# Altium integrated library Texas Instruments Power Management PWM Controller.IntLib: 1227 symbols (part 49 of 49)
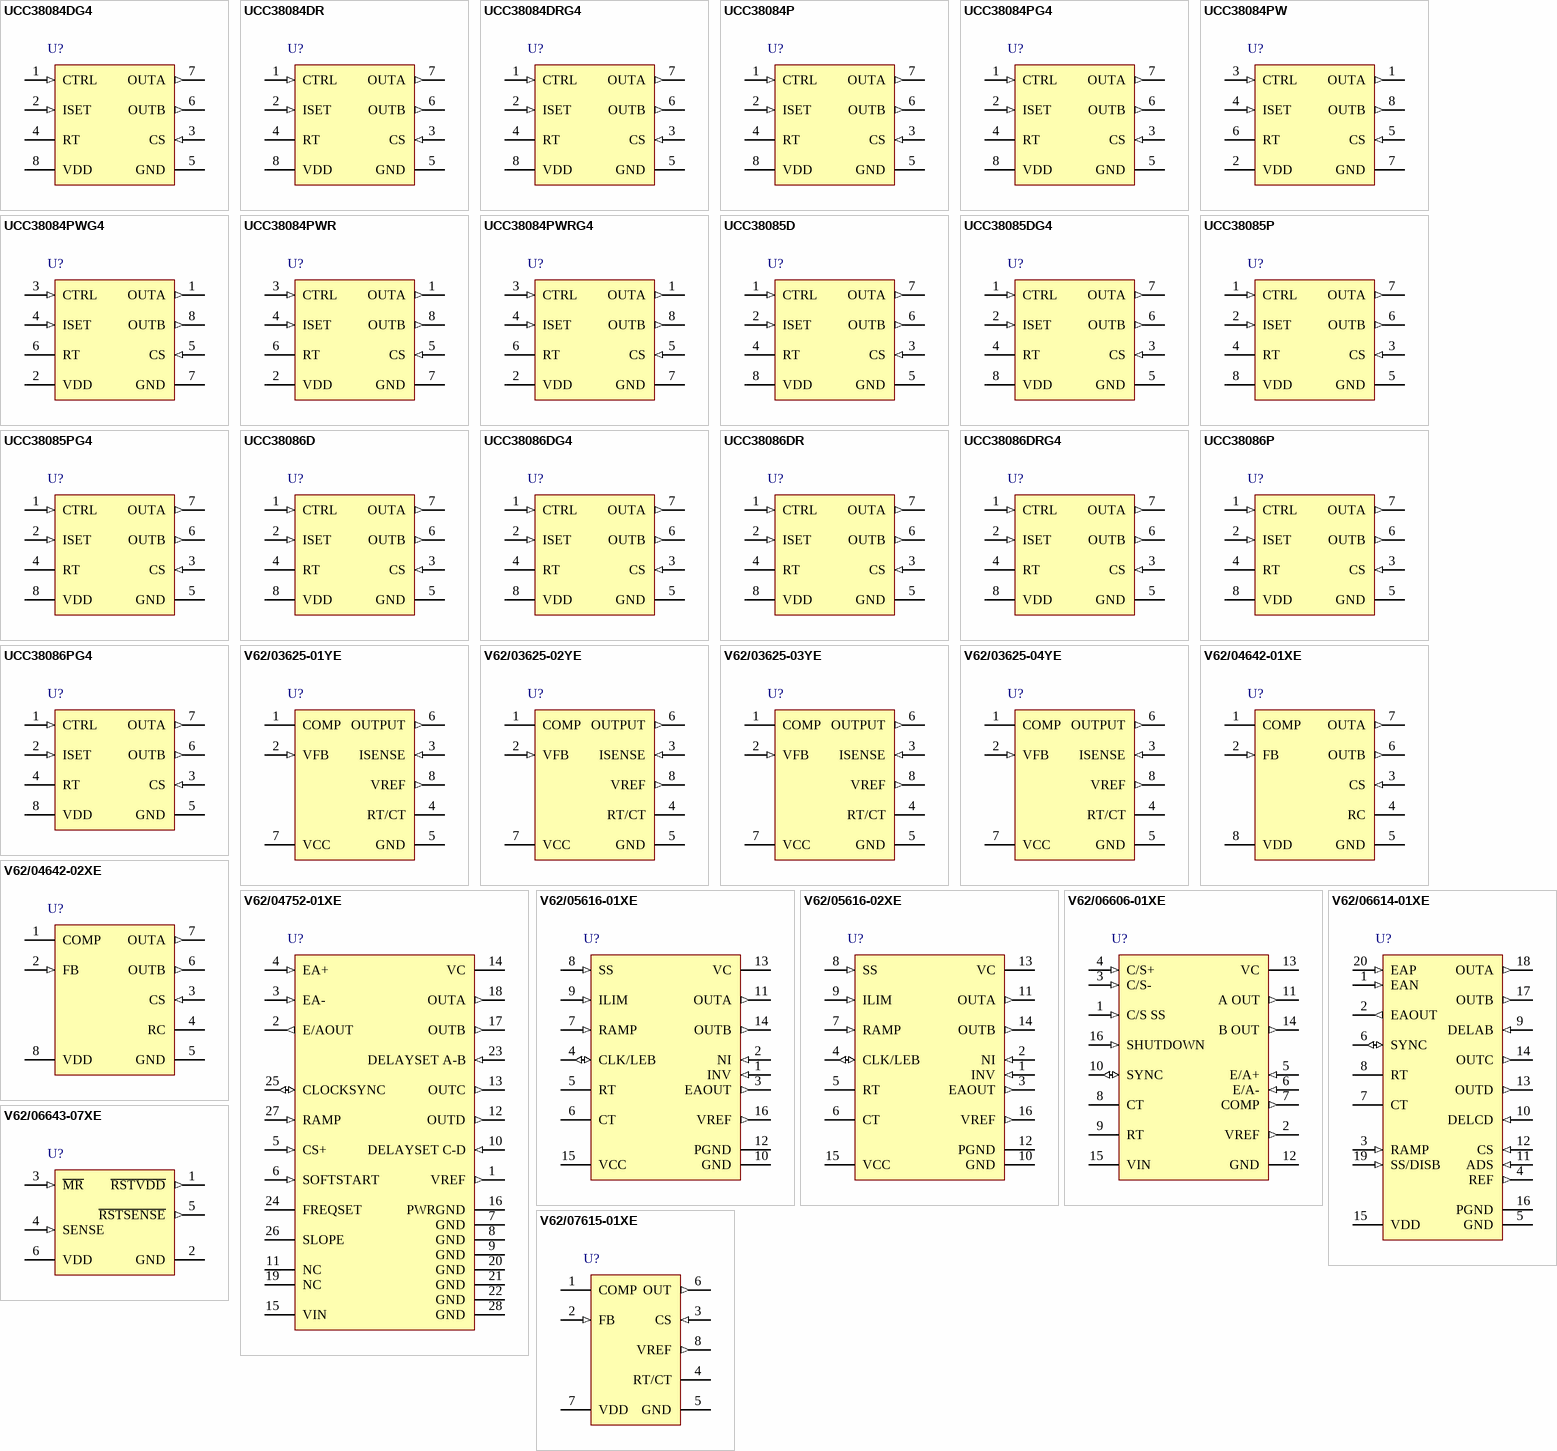
[diagram p91: symbols UCC38084DG4 to V62/07615-01XE]

## V62/06606-01XE
designator U?
Current-Mode PWM Controller with Current Control, 50 % Duty Cycle, -55 to +125 degC, 16-pin SOIC (DW), Green (RoHS & no Sb/Br); PartNumber: V62/06606-01XE; Manufacturer: Texas Instruments; Duty Cycle(Max)(%): 50; Frequency(Max)(kHz): 450; Rating: HiRel Enhanced Product; Regulated Outputs(#): 2; Topology: Boost, Flyback, Forward, Full-Bridge, Half-Bridge, Push-Pull; DatasheetVersion: SGLS329; PackageVersion: revG, Jan-2011; PackageReference: DW16; PackageDescription: 16-Pin Small Outline Integrated Circuit, 10.3 x 7.5 mm, Pitch 1.27 mm Pitch; Supplier 1: Newark; Supplier Part Number 1: 46M1797; Supplier 2: Mouser; Supplier Part Number 2: 595-V62/06606-01XE; Control Method: Current; Eco-Plan: Green (RoHS & no Sb/Br); SubFamily: PWM Controller; Mounting Technology: Surface Mount; Code_JEDEC: MS-013-AA; ComponentLink1Description: Datasheet; ComponentLink1URL: http://www.ti.com/general/docs/lit/getliterature.tsp?genericPartNumber=UC1846-EP&fileType=pdf
footprint DW16_N (SOIC, 16-Leads, Body 10.3x7.5mm, Pitch 1.27mm, IPC Medium Density)
footprint DW16_L (SOIC, 16-Leads, Body 10.3x7.5mm, Pitch 1.27mm, IPC High Density)
footprint DW16_M (SOIC, 16-Leads, Body 10.3x7.5mm, Pitch 1.27mm, IPC Low Density)
pins: 1 C/S SS (in), 2 VREF (out), 3 C/S- (in), 4 C/S+ (in), 5 E/A+ (in), 6 E/A- (in), 7 COMP (out), 8 CT, 9 RT, 10 SYNC (io), 11 A OUT (out), 12 GND (power), 13 VC (power), 14 B OUT (out), 15 VIN (power), 16 SHUTDOWN (in)

## V62/06614-01XE
designator U?
BiCMOS Advanced Phase Shift PWM Controller with Current Control, 100 % Duty Cycle, -55 to +125 degC, 20-pin SOIC (DW), Green (RoHS & no Sb/Br); PartNumber: V62/06614-01XE; Manufacturer: Texas Instruments; Duty Cycle(Max)(%): 100; Frequency(Max)(kHz): 527; Rating: HiRel Enhanced Product; UVLO Thresholds On/Off(V): 11.8/9.8; DatasheetVersion: SCBS809F; PackageVersion: revG, Jan-2011; PackageReference: DW20; PackageDescription: 20-Pin Plastic Small Outline Integrated Circuit, 12.8 x 7.5 mm, Pitch 1.27 mm Pitch; Supplier 1: Newark; Supplier Part Number 1: 46M1805; Supplier 2: Mouser; Supplier Part Number 2: 595-V62/06614-01XE; Control Method: Current; Eco-Plan: Green (RoHS & no Sb/Br); SubFamily: PWM Controller; Mounting Technology: Surface Mount; Code_JEDEC: MS-013-AC; ComponentLink1Description: Datasheet; ComponentLink1URL: http://www.ti.com/general/docs/lit/getliterature.tsp?genericPartNumber=UCC2895-EP&fileType=pdf
footprint DW20_N (SOIC, 20-Leads, Body 12.8x7.5mm, Pitch 1.27mm, IPC Medium Density)
footprint DW20_L (SOIC, 20-Leads, Body 12.8x7.5mm, Pitch 1.27mm, IPC High Density)
footprint DW20_M (SOIC, 20-Leads, Body 12.8x7.5mm, Pitch 1.27mm, IPC Low Density)
pins: 1 EAN (in) "Error amplifier negative. Inverting input to the error amplifier. Keep below 3.6 V for proper operation.", 2 EAOUT (out) "Error amplifier output. EAOUT also is connected internally to the noninverting input of the PWM comparator and the no-load comparator. EAOUT is internally clamped to the soft-start voltage. The no-load comparator shuts down (See Datasheet)", 3 RAMP (in) "Inverting input of PWM comparator. RAMP receives either the CT waveform in voltage and average current-mode RAMP controls, or the current signal (plus slope compensation) in peak current-mode control. An internal discharge (See Datasheet)", 4 REF (out) "5 V +/- 1.2% voltage reference. REF supplies power to internal circuitry, and also can supply up to 5 mA to external loads. The reference is shut down during undervoltage lockout, but is operational during all other disable (See Datasheet)", 5 GND (power) "Ground. Chip ground for all circuits except the output stages.", 6 SYNC (io) "Synchronization (see Figure 3). SYNC is bidirectional. When used as an output, SYNC can be used as a clock, which is the same as the chip’s internal clock. When used as an input, SYNC overrides the chip’s internal oscillator (See Datasheet)", 7 CT "Oscillator timing capacitor (see Figure 3). The UCC2895-EP oscillator charges CT via a programmed current. The waveform on CT is a sawtooth, with a peak voltage of 2.35 V. The approximate oscillator period is calculated by: (See Datasheet)", 8 RT "Oscillator timing resistor (see Figure 3). The oscillator in the UCC2895-EP operates by charging an external timing capacitor, CT, with a fixed current programmed by RT. RT current is calculated as: RT can range from 40 k (See Datasheet)", 9 DELAB (in) "Delay programming between complementary outputs. DELAB programs the dead time between switching of OUTA and OUTB, and DELCD programs the dead time between OUTC and OUTD. This delay is introduced between complementary outputs (See Datasheet)", 10 DELCD (in) "Delay programming between complementary outputs. DELAB programs the dead time between switching of OUTA and OUTB, and DELCD programs the dead time between OUTC and OUTD. This delay is introduced between complementary outputs (See Datasheet)", 11 ADS (in) "Adaptive delay set.This function sets the ratio between the maximum and minimum programmed output delay dead time. When ADS is connected directly to CS, no delay modulation occurs. Maximum delay modulation occurs when ADS is (See Datasheet)", 12 CS (in) "Current sense. CS is the inverting input of the current-sense comparator, and the noninverting input of the overcurrent comparator and the ADS amplifier. The CS signal is used for cycle-by-cycle current limiting in peak (See Datasheet)", 13 OUTD (out) "Output. These outputs are 100-mA complementary MOS drivers and are optimized to drive FET driver circuits. OUTA and OUTB are fully complementary (assuming no programmed delay). They operate near 50% duty cycle and one-half (See Datasheet)", 14 OUTC (out) "Output. These outputs are 100-mA complementary MOS drivers and are optimized to drive FET driver circuits. OUTA and OUTB are fully complementary (assuming no programmed delay). They operate near 50% duty cycle and one-half (See Datasheet)", 15 VDD (power) "Power supply. VDD must be bypassed with a minimum of a 1.0-uF low ESR, low ESL capacitor to ground.", 16 PGND (power) "?Output stage ground. To keep output switching noise from critical analog circuits, the UCC2895-EP has two different ground connections. PGND is the ground connection for the high-current output stages. Both GND and PGND (See Datasheet)", 17 OUTB (out) "Output. These outputs are 100-mA complementary MOS drivers and are optimized to drive FET driver circuits. OUTA and OUTB are fully complementary (assuming no programmed delay). They operate near 50% duty cycle and one-half (See Datasheet)", 18 OUTA (out) "?Oscillator timing resistor (see Figure 3). The oscillator in the UCC2895-EP operates by charging an external timing capacitor, CT, with a fixed current programmed by RT. RT current is calculated as: RT can range from 40 k (See Datasheet)", 19 SS/DISB (in) "Soft start/disable. SS/DISB combines two independent functions: Disable mode. A rapid shutdown of the chip is accomplished by any one of the following: externally forcing SS/DISB below 0.5 V, externally forcing REF below 4 (See Datasheet)", 20 EAP (in) "Error amplifier positive. Noninverting input to the error amplifier. Keep below 3.6 V for proper operation."

## V62/06643-07XE
designator U?
Ultra-Low Supply-Current / Supply Voltage Supervisory Circuit, -55 to +125 degC, 6-pin SOT-23 (DBV), Green (RoHS & no Sb/Br); PartNumber: V62/06643-07XE; Manufacturer: Texas Instruments; Rating: HiRel Enhanced Product; SubFamily: PWM Controller; DatasheetVersion: SLVS686; PackageVersion: revK, Mar-2006; PackageReference: DBV6; PackageDescription: 6-Pin Plastic Small-Outline Package, 2.9 x 1.6 mm Body, 0.95 mm Pitch, 2.8 mm Lead Span; Supplier 1: Mouser; Supplier Part Number 1: 595-V62/06643-07XE; Eco-Plan: Green (RoHS & no Sb/Br); Mounting Technology: Surface Mount; Code_JEDEC: MO-178-AB*; ComponentLink1Description: Datasheet; ComponentLink1URL: http://www.ti.com/general/docs/lit/getliterature.tsp?genericPartNumber=TPS3106-EP&fileType=pdf
footprint DBV6_N (SOT23, 6-Leads, Body 2.9x1.6mm, Pitch 0.95mm, Lead Span 2.8mm, IPC Medium Density)
footprint DBV6_L (SOT23, 6-Leads, Body 2.9x1.6mm, Pitch 0.95mm, Lead Span 2.8mm, IPC High Density)
footprint DBV6_M (SOT23, 6-Leads, Body 2.9x1.6mm, Pitch 0.95mm, Lead Span 2.8mm, IPC Low Density)
pins: 1 ~{RSTVDD} (out) "Active-low reset output. Logic level at R\S\T\V\D\D\ only depends on the voltage at VDD and the status of M\R\.", 2 GND (power) "Ground", 3 ~{MR} (in) "Manual reset input. Pull low to force a reset. R\E\S\E\T\ remains low as long as M\R\ is low and for the timeout period after M\R\ goes high. Leave unconnected or connect to VDD when unused.", 4 SENSE (in) "Sense. A reset is asserted if the voltage at SENSE is lower than 0.551 V. Connect to VDD if TPS3110 unused.", 5 ~{RSTSENSE} (out) "Active-low reset output. Logic level at R\S\T\S\E\N\S\E\ only depends on the voltage at SENSE and the status of M\R\.", 6 VDD (power) "Supply voltage. Powers the device and monitors its own voltage."

## V62/07615-01XE
designator U?
BiCMOS Low-Power Current-Mode PWM Controller, -55 to +125 degC, 8-pin SOIC (D), Green (RoHS & no Sb/Br); PartNumber: V62/07615-01XE; Manufacturer: Texas Instruments; Rating: HiRel Enhanced Product; DatasheetVersion: SGLS352B; PackageVersion: revM, Jun-2011; PackageReference: D8; PackageDescription: 8-Pin Plastic Small Outline Integrated Circuit, 4.9 x 3.9 mm, Pitch 1.27 mm Pitch; Supplier 1: Newark; Supplier Part Number 1: 46M1907; Supplier 2: Mouser; Supplier Part Number 2: 595-V62/07615-01XE; Control Method: Current; Eco-Plan: Green (RoHS & no Sb/Br); SubFamily: PWM Controller; Mounting Technology: Surface Mount; Code_JEDEC: MS-012AA; ComponentLink1Description: Datasheet; ComponentLink1URL: http://www.ti.com/general/docs/lit/getliterature.tsp?genericPartNumber=UCC28C43-EP&fileType=pdf
footprint D8_N (SOIC, 8-Leads, Body 4.9x3.9mm, Pitch 1.27mm, IPC Medium Density)
footprint D8_L (SOIC, 8-Leads, Body 4.9x3.9mm, Pitch 1.27mm, IPC High Density)
footprint D8_M (SOIC, 8-Leads, Body 4.9x3.9mm, Pitch 1.27mm, IPC Low Density)
pins: 1 COMP, 2 FB (in), 3 CS (in), 4 RT/CT, 5 GND (power), 6 OUT (out), 7 VDD (power), 8 VREF (out)